# Altium footprint library SparkFun-Connectors.PCBLIB: 312 footprints (part 1 of 20)
Each footprint in its own frame and in the unit in brackets; x right, y up, seen from the top. Pads: shape width x height; smd on the part's side, far side on the other; paste and mask are expansions set on the pad; w line width, h text height; cw(c..) or ccw(c..) is an arc to the next point about the centre after c.
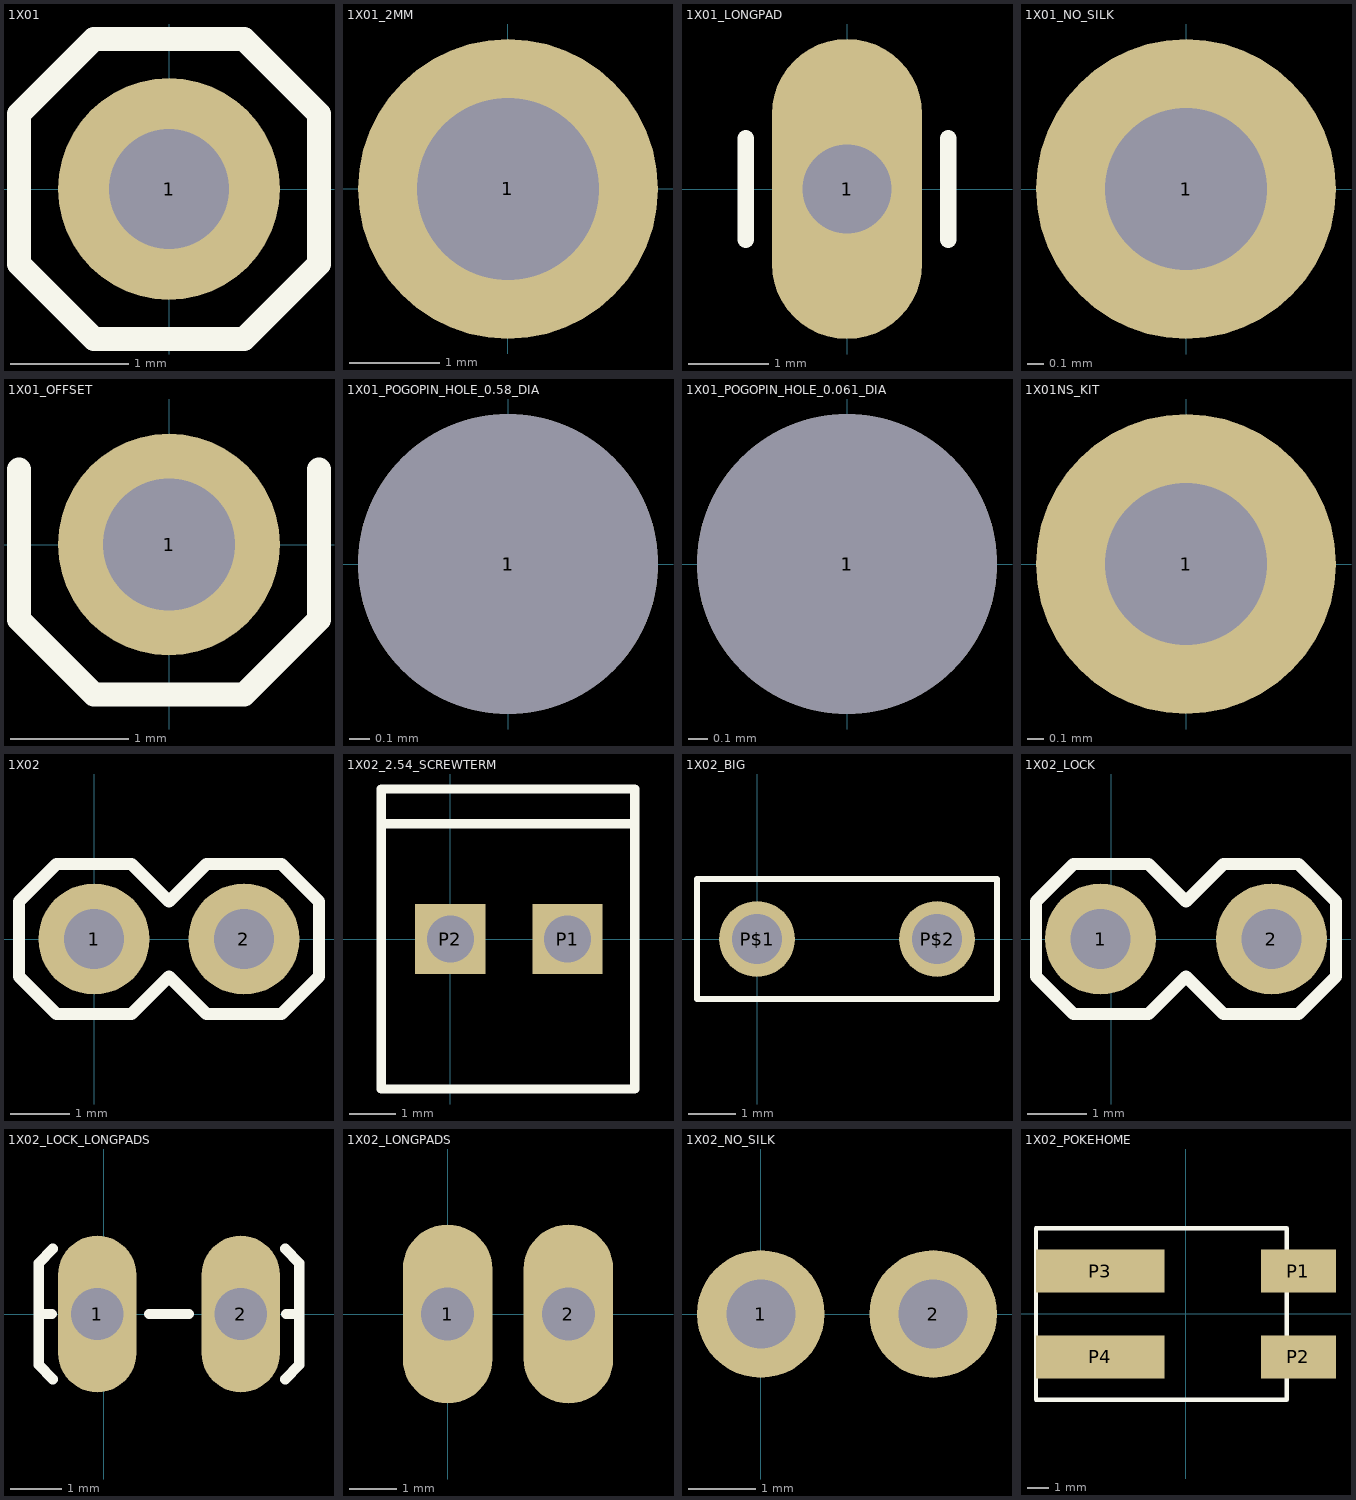
[diagram p0: the footprints below, top view; thin cyan lines are the x and y axes]

## 1X01 [mil]
pads (1):
  round 74 hole 40: 1(0,0)
Top Overlay:
  lines w8: -50,-25 -25,-50 25,-50 50,-25 50,25 25,50 -25,50 -50,25 -50,-25
Mechanical 16:
  rectangle: -10,-10 10,10

## 1X01_2MM [mil]
pads (1):
  round 130 hole 78.74: 1(0,0)

## 1X01_LONGPAD [mil]
pads (1):
  oval 74x148 hole 44: 1(0,0)
Top Overlay:
  lines w8: -50,-25 -50,25 ; 50,-25 50,25
Mechanical 16:
  rectangle: -10,-10 10,10

## 1X01_NO_SILK [mil]
pads (1):
  round 74 hole 40: 1(0,0)
Mechanical 16:
  rectangle: -10,-10 10,10

## 1X01_OFFSET [mil]
pads (1):
  round 74 hole 44: 1(0,0)
Top Overlay:
  lines w8: -50,25 -50,-25 -25,-50 25,-50 50,-25 50,25
Mechanical 16:
  rectangle: -10,-10 10,10

## 1X01_POGOPIN_HOLE_0.58_DIA [mil]
pads (2):
  round 32 hole 35.43: 1(0,0)
  round 58 hole 58: 1(0,0)
Mechanical 16:
  circle w5: c0,0 r25

## 1X01_POGOPIN_HOLE_0.061_DIA [mil]
pads (2):
  round 32 hole 35.43: 1(0,0)
  round 61 hole 61: 1(0,0)
Mechanical 16:
  circle w5: c0,0 r25

## 1X01NS_KIT [mil]
pads (1):
  round 74 hole 40: 1(0,0)
Top Solder:
  circle w0: c0,0 r20
Bottom Solder:
  circle w0: c0,0 r37

## 1X02 [mil]
pads (2):
  round 74 hole 40: 1(0,0) 2(100,0)
Top Overlay:
  lines w8: -50,-25 -50,25 -25,50 25,50 50,25 75,50 125,50 150,25 150,-25 125,-50 75,-50 50,-25 25,-50 -25,-50 -50,-25
Mechanical 16:
  rectangle: 90,-10 110,10
  rectangle: -10,-10 10,10

## 1X02_2.54_SCREWTERM [mil]
pads (2):
  rect 60x60 hole 40: P1(100,0) P2(0,0)
Top Overlay:
  lines w8: -59.06,98.43 -59.06,-127.95 157.48,-127.95 157.48,98.43 ; -59.06,98.43 -59.06,127.95 157.48,127.95 157.48,98.43 ; -59.06,98.43 157.48,98.43

## 1X02_BIG [mil]
pads (2):
  round 63 hole 42: P$1(0,0) P$2(150,0)
Top Overlay:
  lines w5: -50,-50 -50,50 200,50 200,-50 -50,-50

## 1X02_LOCK [mil]
pads (2):
  round 74 hole 40: 1(-7,0) 2(107,0)
Top Overlay:
  lines w8: -50,-25 -50,25 -25,50 25,50 50,25 75,50 125,50 150,25 150,-25 125,-50 75,-50 50,-25 25,-50 -25,-50 -50,-25
Mechanical 16:
  rectangle: -11.5,-11.5 11.5,11.5
  rectangle: 88.5,-11.5 111.5,11.5

## 1X02_LOCK_LONGPADS [mil]
pads (2):
  oval 60x120 hole 40: 1(-5,0) 2(105,0)
Top Overlay:
  lines w8: -40,0 -50,0 ; -39,-50 -50,-39 -50,0 ; -39,50 -50,39 -50,0 ; 35,0 65,0 ; 139,-50 150,-39 150,0 ; 139,50 150,39 150,0 ; 140,0 150,0
Mechanical 16:
  rectangle: -11.5,-11.5 11.5,11.5
  rectangle: 88.5,-11.5 111.5,11.5

## 1X02_LONGPADS [mil]
pads (2):
  oval 74x148 hole 44: 1(0,0) 2(100,0)

## 1X02_NO_SILK [mil]
pads (2):
  round 74 hole 40: 1(0,0) 2(100,0)
Mechanical 16:
  rectangle: 90,-10 110,10
  rectangle: -10,-10 10,10

## 1X02_POKEHOME [mm]
pads (4):
  rect 3.5x2 smd: P1(5.25,2) P2(5.25,-2)
  rect 6x2 smd: P3(-4,2) P4(-4,-2)
Top Overlay:
  lines w0.203: -7,-4 -7,2 -7,4 4.7,4 4.7,-4 -7,-4